# Altium schematic symbol library Male Headers Single Row.SchLib: 19 symbols
Pins are listed as number, name and electrical type; pins without a type are passive.

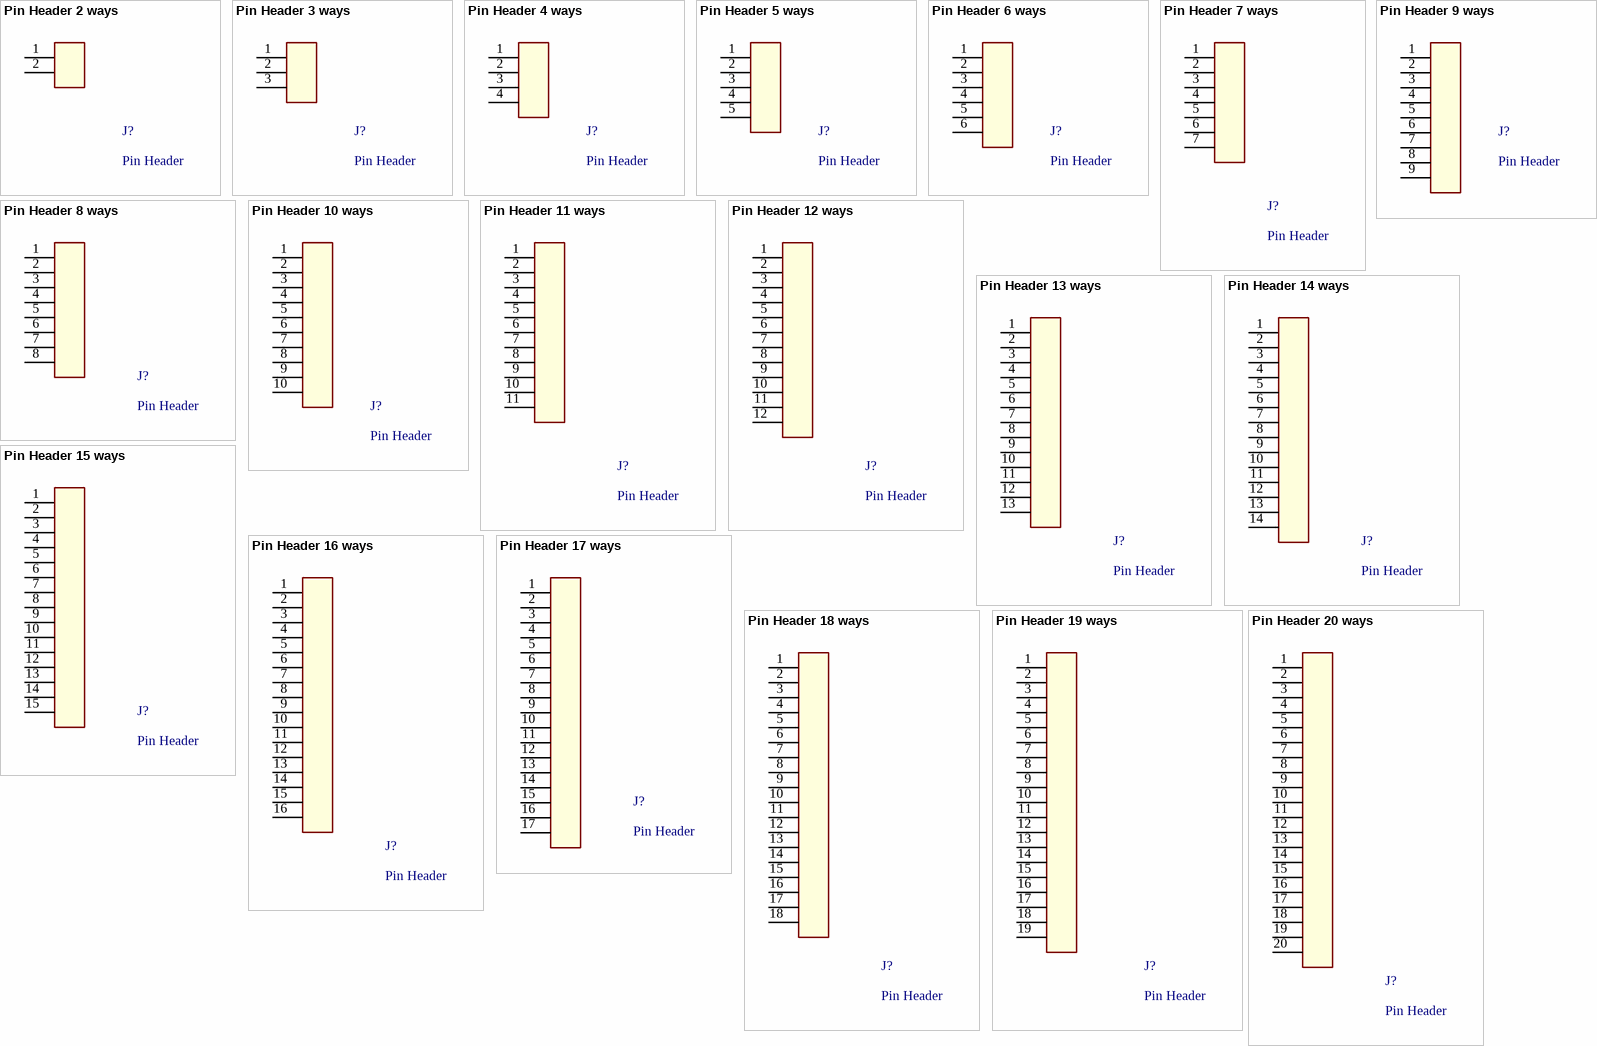
[diagram p0: symbols Pin Header 2 ways to Pin Header 20 ways]

## Pin Header 2 ways
designator J?, comment Pin Header
Connector Header PTH 0.100" (2.54mm); Manufacturer 1: Irwin Inc.; Manufacturer 1 PN: M20-9992046
footprint Pin Header 2 ways (Connector Header 2 ways PTH 0.100" (2.54mm))
pins: 1, 2

## Pin Header 3 ways
designator J?, comment Pin Header
Connector Header PTH 0.100" (2.54mm); Manufacturer 1: Irwin Inc.; Manufacturer 1 PN: M20-9992046
footprint Pin Header 3 Ways (Connector Header 3 ways PTH 0.100" (2.54mm))
pins: 1, 2, 3

## Pin Header 4 ways
designator J?, comment Pin Header
Connector Header PTH 0.100" (2.54mm); Manufacturer 1: Irwin Inc.; Manufacturer 1 PN: M20-9992046
footprint Pin Header 4 Ways (Connector Header 4 ways PTH 0.100" (2.54mm))
pins: 1, 2, 3, 4

## Pin Header 5 ways
designator J?, comment Pin Header
Connector Header PTH 0.100" (2.54mm); Manufacturer 1: Irwin Inc.; Manufacturer 1 PN: M20-9992046
footprint Pin Header 5 Ways (Connector Header 5 ways PTH 0.100" (2.54mm))
pins: 1, 2, 3, 4, 5

## Pin Header 6 ways
designator J?, comment Pin Header
Connector Header PTH 0.100" (2.54mm); Manufacturer 1: Irwin Inc.; Manufacturer 1 PN: M20-9992046
footprint Pin Header 6 Ways (Connector Header 6 ways PTH 0.100" (2.54mm))
pins: 1, 2, 3, 4, 5, 6

## Pin Header 7 ways
designator J?, comment Pin Header
Connector Header PTH 0.100" (2.54mm); Manufacturer 1: Irwin Inc.; Manufacturer 1 PN: M20-9992046
footprint Pin Header 7 Ways (Connector Header 7 ways PTH 0.100" (2.54mm))
pins: 1, 2, 3, 4, 5, 6, 7

## Pin Header 8 ways
designator J?, comment Pin Header
Connector Header PTH 0.100" (2.54mm); Manufacturer 1: Irwin Inc.; Manufacturer 1 PN: M20-9992046
footprint Pin Header 8 Ways (Connector Header 8 ways PTH 0.100" (2.54mm))
pins: 1, 2, 3, 4, 5, 6, 7, 8

## Pin Header 9 ways
designator J?, comment Pin Header
Connector Header PTH 0.100" (2.54mm); Manufacturer 1: Irwin Inc.; Manufacturer 1 PN: M20-9992046
footprint Pin Header 9 Ways (Connector Header 9 ways PTH 0.100" (2.54mm))
pins: 1, 2, 3, 4, 5, 6, 7, 8, 9

## Pin Header 10 ways
designator J?, comment Pin Header
Connector Header PTH 0.100" (2.54mm); Manufacturer 1: Irwin Inc.; Manufacturer 1 PN: M20-9992046
footprint Pin Header 10 Ways (Connector Header 10 ways PTH 0.100" (2.54mm))
pins: 1, 2, 3, 4, 5, 6, 7, 8, 9, 10

## Pin Header 11 ways
designator J?, comment Pin Header
Connector Header PTH 0.100" (2.54mm); Manufacturer 1: Irwin Inc.; Manufacturer 1 PN: M20-9992046
footprint Pin Header 11 Ways (Connector Header 11 ways PTH 0.100" (2.54mm))
pins: 1, 2, 3, 4, 5, 6, 7, 8, 9, 10, 11

## Pin Header 12 ways
designator J?, comment Pin Header
Connector Header PTH 0.100" (2.54mm); Manufacturer 1: Irwin Inc.; Manufacturer 1 PN: M20-9992046
footprint Pin Header 12 Ways (Connector Header 12 ways PTH 0.100" (2.54mm))
pins: 1, 2, 3, 4, 5, 6, 7, 8, 9, 10, 11, 12

## Pin Header 13 ways
designator J?, comment Pin Header
Connector Header PTH 0.100" (2.54mm); Manufacturer 1: Irwin Inc.; Manufacturer 1 PN: M20-9992046
footprint Pin Header 13 Ways (Connector Header 13 ways PTH 0.100" (2.54mm))
pins: 1, 2, 3, 4, 5, 6, 7, 8, 9, 10, 11, 12, 13

## Pin Header 14 ways
designator J?, comment Pin Header
Connector Header PTH 0.100" (2.54mm); Manufacturer 1: Irwin Inc.; Manufacturer 1 PN: M20-9992046
footprint Pin Header 14 Ways (Connector Header 14 ways PTH 0.100" (2.54mm))
pins: 1, 2, 3, 4, 5, 6, 7, 8, 9, 10, 11, 12, 13, 14

## Pin Header 15 ways
designator J?, comment Pin Header
Connector Header PTH 0.100" (2.54mm); Manufacturer 1: Irwin Inc.; Manufacturer 1 PN: M20-9992046
footprint Pin Header 15 Ways (Connector Header 15 ways PTH 0.100" (2.54mm))
pins: 1, 2, 3, 4, 5, 6, 7, 8, 9, 10, 11, 12, 13, 14, 15

## Pin Header 16 ways
designator J?, comment Pin Header
Connector Header PTH 0.100" (2.54mm); Manufacturer 1: Irwin Inc.; Manufacturer 1 PN: M20-9992046
footprint Pin Header 16 Ways (Connector Header 16 ways PTH 0.100" (2.54mm))
pins: 1, 2, 3, 4, 5, 6, 7, 8, 9, 10, 11, 12, 13, 14, 15, 16

## Pin Header 17 ways
designator J?, comment Pin Header
Connector Header PTH 0.100" (2.54mm); Manufacturer 1: Irwin Inc.; Manufacturer 1 PN: M20-9992046
footprint Pin Header 17 Ways (Connector Header 17 ways PTH 0.100" (2.54mm))
pins: 1, 2, 3, 4, 5, 6, 7, 8, 9, 10, 11, 12, 13, 14, 15, 16, 17

## Pin Header 18 ways
designator J?, comment Pin Header
Connector Header PTH 0.100" (2.54mm); Manufacturer 1: Irwin Inc.; Manufacturer 1 PN: M20-9992046
footprint Pin Header 18 Ways (Connector Header 18 ways PTH 0.100" (2.54mm))
pins: 1, 2, 3, 4, 5, 6, 7, 8, 9, 10, 11, 12, 13, 14, 15, 16, 17, 18

## Pin Header 19 ways
designator J?, comment Pin Header
Connector Header PTH 0.100" (2.54mm); Manufacturer 1: Irwin Inc.; Manufacturer 1 PN: M20-9992046
footprint Pin Header 19 Ways (Connector Header 19 ways PTH 0.100" (2.54mm))
pins: 1, 2, 3, 4, 5, 6, 7, 8, 9, 10, 11, 12, 13, 14, 15, 16, 17, 18, 19

## Pin Header 20 ways
designator J?, comment Pin Header
Connector Header PTH 0.100" (2.54mm); Manufacturer 1: Irwin Inc.; Manufacturer 1 PN: M20-9992046
footprint Pin Header 20 Ways (Connector Header 20 ways PTH 0.100" (2.54mm))
pins: 1, 2, 3, 4, 5, 6, 7, 8, 9, 10, 11, 12, 13, 14, 15, 16, 17, 18, 19, 20